# EAGLE library part L293E (library andereBauteile)
L293E Motortreiber
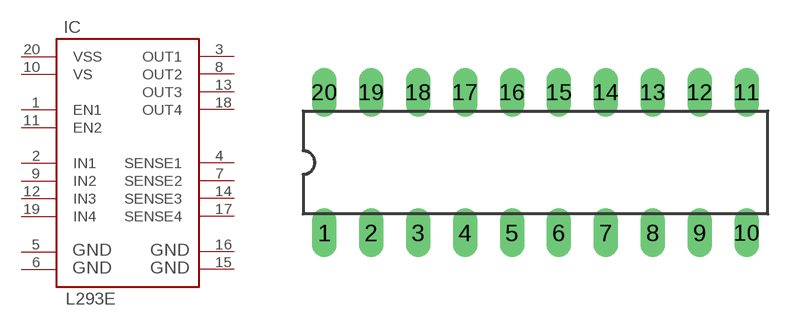
[diagram p15: symbol with the pads of DIL20; footprint DIL20]

Designator prefix IC

## L293E  [DIL20]
1  EN1  in
2  IN1  in
3  OUT1  out
4  SENSE1
5  GND  pwr
6  GND  pwr
7  SENSE2
8  OUT2  out
9  IN2  in
10  VS  pwr
11  EN2  in
12  IN3  in
13  OUT3  out
14  SENSE3
15  GND  pwr
16  GND  pwr
17  SENSE4
18  OUT4  out
19  IN4  in
20  VSS  pwr

## Footprint DIL20 (pad centres in mm)
drill 0.813 long: 1 -11.43,-3.81; 2 -8.89,-3.81; 3 -6.35,-3.81; 4 -3.81,-3.81; 5 -1.27,-3.81; 6 1.27,-3.81; 7 3.81,-3.81; 8 6.35,-3.81; 9 8.89,-3.81; 10 11.43,-3.81; 11 11.43,3.81; 12 8.89,3.81; 13 6.35,3.81; 14 3.81,3.81; 15 1.27,3.81; 16 -1.27,3.81; 17 -3.81,3.81; 18 -6.35,3.81; 19 -8.89,3.81; 20 -11.43,3.81